# EAGLE library part USB3318 (library SparkFun-DigitalIC)
Hi-speed USB transceiver
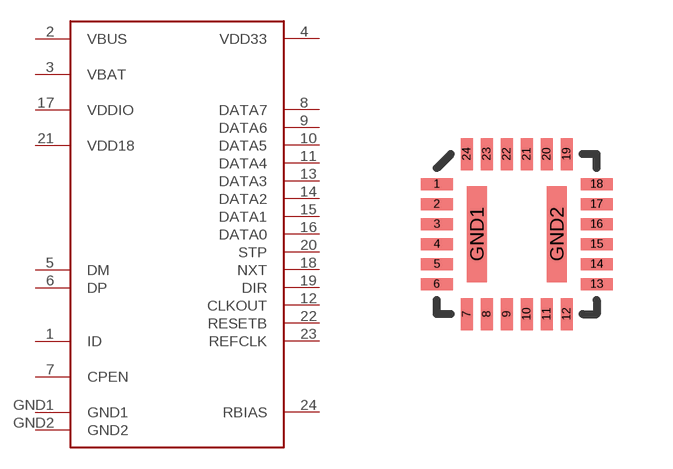
[diagram p70: symbol with the pads of QFN-24-USB; footprint QFN-24-USB]

Designator prefix -

## USB3318  [QFN-24-USB]
1  ID
2  VBUS
3  VBAT
4  VDD33
5  DM
6  DP
7  CPEN
8  DATA7
9  DATA6
10  DATA5
11  DATA4
12  CLKOUT
13  DATA3
14  DATA2
15  DATA1
16  DATA0
17  VDDIO
18  NXT
19  DIR
20  STP
21  VDD18
22  RESETB
23  REFCLK
24  RBIAS
GND1  GND1
GND2  GND2

## Footprint QFN-24-USB (pad centres in mm)
smd 0.8 x 0.3: 1 -2,1.25; 2 -2,0.75; 3 -2,0.25; 4 -2,-0.25; 5 -2,-0.75; 6 -2,-1.25; 13 2,-1.25; 14 2,-0.75; 15 2,-0.25; 16 2,0.25; 17 2,0.75; 18 2,1.25
smd 0.3 x 0.8: 7 -1.25,-2; 8 -0.75,-2; 9 -0.25,-2; 10 0.25,-2; 11 0.75,-2; 12 1.25,-2; 19 1.25,2; 20 0.75,2; 21 0.25,2; 22 -0.25,2; 23 -0.75,2; 24 -1.25,2
smd 0.5 x 2.4: GND1 -1,0; GND2 1,0